# EAGLE library part ATMEGA32U4-AU (library ATmega32U4)
8-bit Microcontroller with ISP Flash and USB Controller
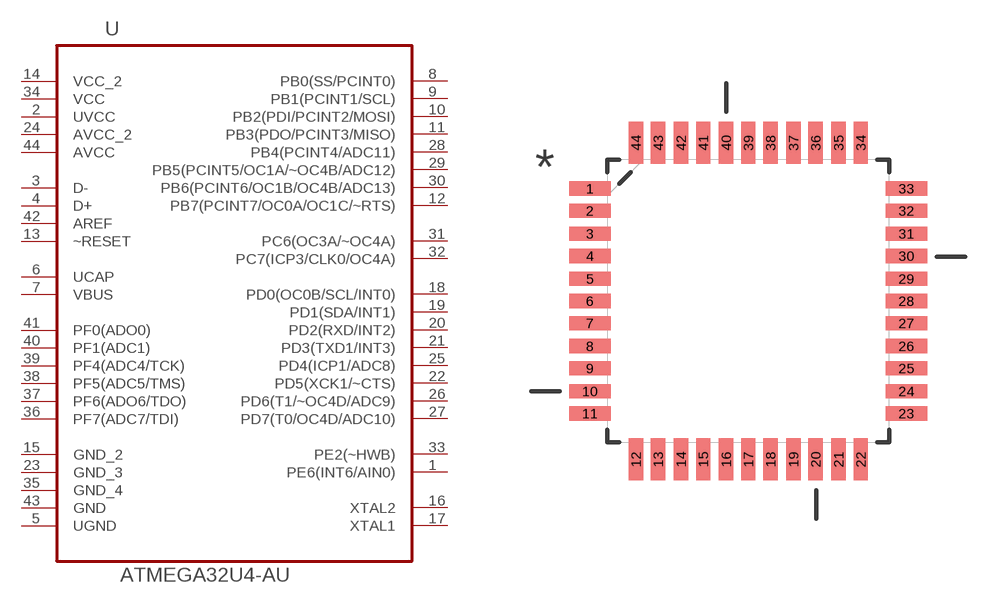
[diagram p0: symbol with the pads of QFP80P1200X1200X120-44N; footprint QFP80P1200X1200X120-44N]

Designator prefix U

## ATMEGA32U4-AU (MPN: ATMEGA32U4-AU; OC_FARNELL: 1748525; OC_NEWARK: 26R5633; PACKAGE: TQFP-44; SUPPLIER: Atmel)  [QFP80P1200X1200X120-44N]
1  PE6(INT6/AIN0)
2  UVCC  pwr
3  D-  pas
4  D+  pas
5  UGND  pas
6  UCAP  pwr
7  VBUS  in
8  PB0(SS/PCINT0)
9  PB1(PCINT1/SCL)
10  PB2(PDI/PCINT2/MOSI)
11  PB3(PDO/PCINT3/MISO)
12  PB7(PCINT7/OC0A/OC1C/~RTS)
13  ~RESET  in
14  VCC_2  pwr
15  GND_2  pas
16  XTAL2  out
17  XTAL1  in
18  PD0(OC0B/SCL/INT0)
19  PD1(SDA/INT1)
20  PD2(RXD/INT2)
21  PD3(TXD1/INT3)
22  PD5(XCK1/~CTS)
23  GND_3  pas
24  AVCC_2  pwr
25  PD4(ICP1/ADC8)
26  PD6(T1/~OC4D/ADC9)
27  PD7(T0/OC4D/ADC10)
28  PB4(PCINT4/ADC11)
29  PB5(PCINT5/OC1A/~OC4B/ADC12)
30  PB6(PCINT6/OC1B/OC4B/ADC13)
31  PC6(OC3A/~OC4A)
32  PC7(ICP3/CLK0/OC4A)
33  PE2(~HWB)
34  VCC  pwr
35  GND_4  pas
36  PF7(ADC7/TDI)
37  PF6(ADO6/TDO)
38  PF5(ADC5/TMS)
39  PF4(ADC4/TCK)
40  PF1(ADC1)
41  PF0(ADO0)
42  AREF  in
43  GND  pas
44  AVCC  pwr

## Footprint QFP80P1200X1200X120-44N (pad centres in mm)
smd 1.473 x 0.508: 1 -5.613,3.988; 2 -5.613,3.2; 3 -5.613,2.388; 4 -5.613,1.6; 5 -5.613,0.787; 6 -5.613,0; 7 -5.613,-0.787; 8 -5.613,-1.6; 9 -5.613,-2.388; 10 -5.613,-3.2; 11 -5.613,-3.988; 23 5.613,-3.988; 24 5.613,-3.2; 25 5.613,-2.388; 26 5.613,-1.6; 27 5.613,-0.787; 28 5.613,0; 29 5.613,0.787; 30 5.613,1.6; 31 5.613,2.388; 32 5.613,3.2; 33 5.613,3.988
smd 0.508 x 1.473: 12 -3.988,-5.613; 13 -3.2,-5.613; 14 -2.388,-5.613; 15 -1.6,-5.613; 16 -0.787,-5.613; 17 0,-5.613; 18 0.787,-5.613; 19 1.6,-5.613; 20 2.388,-5.613; 21 3.2,-5.613; 22 3.988,-5.613; 34 3.988,5.613; 35 3.2,5.613; 36 2.388,5.613; 37 1.6,5.613; 38 0.787,5.613; 39 0,5.613; 40 -0.787,5.613; 41 -1.6,5.613; 42 -2.388,5.613; 43 -3.2,5.613; 44 -3.988,5.613